# Altium integrated library B2B-SOM-TL3572.IntLib: 1 symbol
Pins are listed as number, name and electrical type; pins without a type are passive.

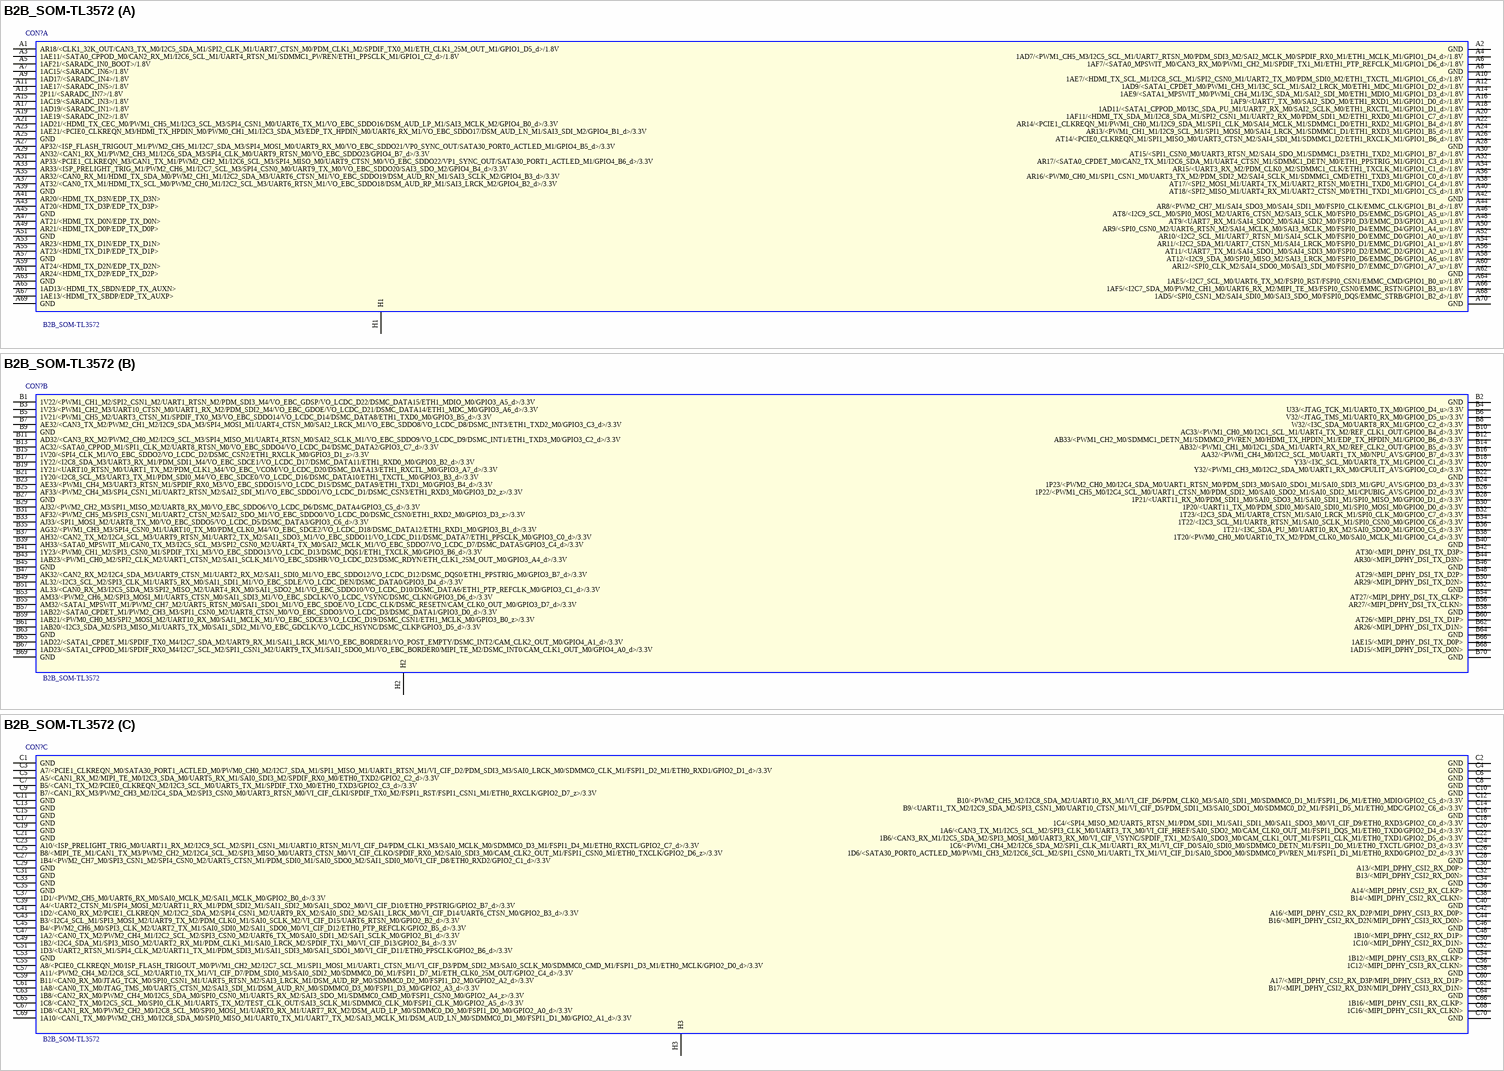
[diagram p0: symbol B2B_SOM-TL3572]

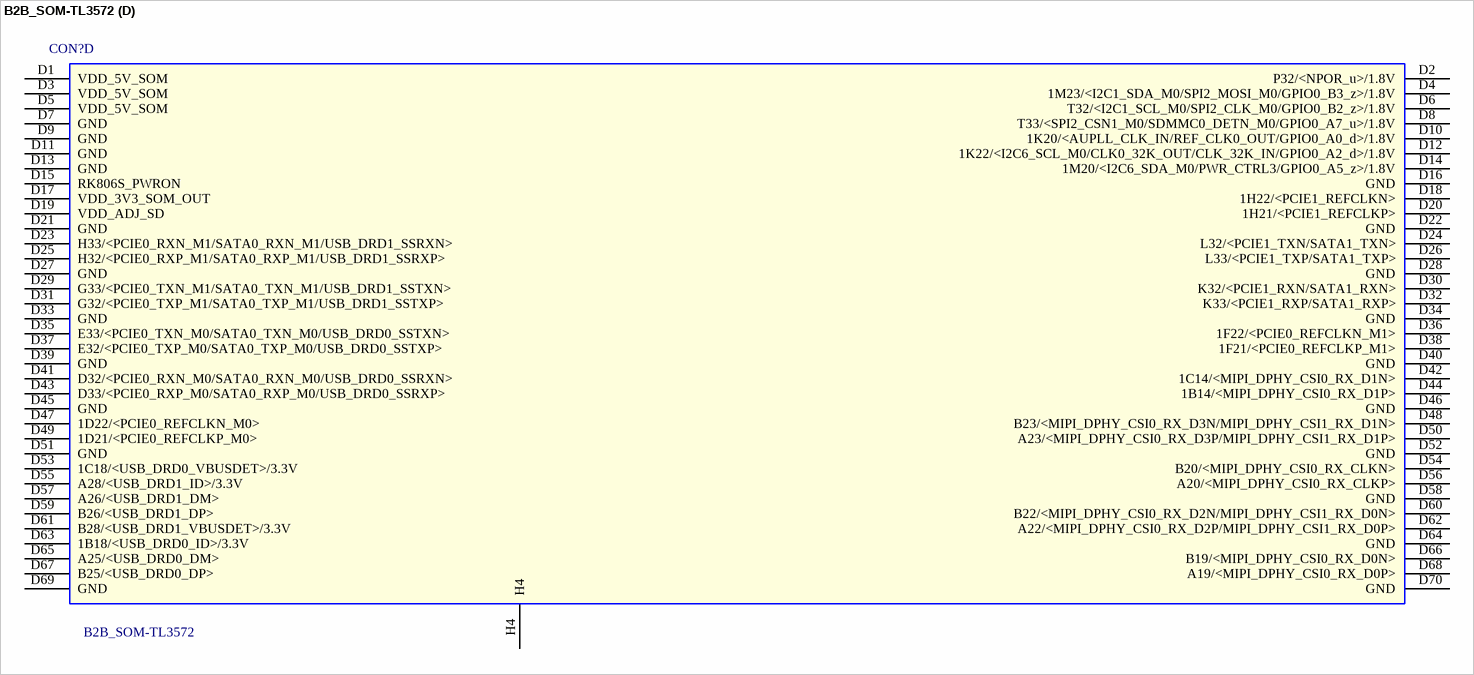
[diagram p1: symbol B2B_SOM-TL3572]

## B2B_SOM-TL3572
designator CON?
As-Welded: /; PCB Footprint: B2B_SOM-TL3572
footprint B2B_SOM-TL3572
part A pins: A1 AR18/<CLK1_32K_OUT/CAN3_TX_M0/I2C5_SDA_M1/SPI2_CLK_M1/UART7_CTSN_M0/PDM_CLK1_M2/SPDIF_TX0_M1/ETH_CLK1_25M_OUT_M1/GPIO1_D5_d>/1.8V (power), A2 GND (power), A3 1AE11/<SATA0_CPPOD_M0/CAN2_RX_M1/I2C6_SCL_M1/UART4_RTSN_M1/SDMMC1_PWREN/ETH1_PPSCLK_M1/GPIO1_C2_d>/1.8V (power), A4 1AD7/<PWM1_CH5_M3/I2C5_SCL_M1/UART7_RTSN_M0/PDM_SDI3_M2/SAI2_MCLK_M0/SPDIF_RX0_M1/ETH1_MCLK_M1/GPIO1_D4_d>/1.8V, A5 1AF21/<SARADC_IN0_BOOT>/1.8V (power), A6 1AF7/<SATA0_MPSWIT_M0/CAN3_RX_M0/PWM1_CH2_M1/SPDIF_TX1_M1/ETH1_PTP_REFCLK_M1/GPIO1_D6_d>/1.8V, A7 1AC15/<SARADC_IN6>/1.8V (power), A8 GND (power), A9 1AD17/<SARADC_IN4>/1.8V (power), A10 1AE7/<HDMI_TX_SCL_M1/I2C8_SCL_M1/SPI2_CSN0_M1/UART2_TX_M0/PDM_SDI0_M2/ETH1_TXCTL_M1/GPIO1_C6_d>/1.8V, A11 1AE17/<SARADC_IN5>/1.8V (power), A12 1AD9/<SATA1_CPDET_M0/PWM1_CH3_M1/I3C_SCL_M1/SAI2_LRCK_M0/ETH1_MDC_M1/GPIO1_D2_d>/1.8V, A13 2P11/<SARADC_IN7>/1.8V, A14 1AE9/<SATA1_MPSWIT_M0/PWM1_CH4_M1/I3C_SDA_M1/SAI2_SDI_M0/ETH1_MDIO_M1/GPIO1_D3_d>/1.8V (power), A15 1AC19/<SARADC_IN3>/1.8V, A16 1AF9/<UART7_TX_M0/SAI2_SDO_M0/ETH1_RXD1_M1/GPIO1_D0_d>/1.8V, A17 1AD19/<SARADC_IN1>/1.8V, A18 1AD11/<SATA1_CPPOD_M0/I3C_SDA_PU_M1/UART7_RX_M0/SAI2_SCLK_M0/ETH1_RXCTL_M1/GPIO1_D1_d>/1.8V, A19 1AE19/<SARADC_IN2>/1.8V, A20 1AF11/<HDMI_TX_SDA_M1/I2C8_SDA_M1/SPI2_CSN1_M1/UART2_RX_M0/PDM_SDI1_M2/ETH1_RXD0_M1/GPIO1_C7_d>/1.8V, A21 1AD21/<HDMI_TX_CEC_M0/PWM1_CH5_M1/I2C3_SCL_M3/SPI4_CSN1_M0/UART6_TX_M1/VO_EBC_SDDO16/DSM_AUD_LP_M1/SAI3_MCLK_M2/GPIO4_B0_d>/3.3V, A22 AR14/<PCIE1_CLKREQN_M1/PWM1_CH0_M1/I2C9_SDA_M1/SPI1_CLK_M0/SAI4_MCLK_M1/SDMMC1_D0/ETH1_RXD2_M1/GPIO1_B4_d>/1.8V, A23 1AE21/<PCIE0_CLKREQN_M3/HDMI_TX_HPDIN_M0/PWM0_CH1_M1/I2C3_SDA_M3/EDP_TX_HPDIN_M0/UART6_RX_M1/VO_EBC_SDDO17/DSM_AUD_LN_M1/SAI3_SDI_M2/GPIO4_B1_d>/3.3V, A24 AR13/<PWM1_CH1_M1/I2C9_SCL_M1/SPI1_MOSI_M0/SAI4_LRCK_M1/SDMMC1_D1/ETH1_RXD3_M1/GPIO1_B5_d>/1.8V, A25 GND (power), A26 AT14/<PCIE0_CLKREQN_M1/SPI1_MISO_M0/UART3_CTSN_M2/SAI4_SDI_M1/SDMMC1_D2/ETH1_RXCLK_M1/GPIO1_B6_d>/1.8V, A27 AP32/<ISP_FLASH_TRIGOUT_M1/PWM2_CH5_M1/I2C7_SDA_M3/SPI4_MOSI_M0/UART9_RX_M0/VO_EBC_SDDO21/VP0_SYNC_OUT/SATA30_PORT0_ACTLED_M1/GPIO4_B5_d>/3.3V, A28 GND (power), A29 AN32/<CAN1_RX_M1/PWM2_CH3_M1/I2C6_SDA_M3/SPI4_CLK_M0/UART9_RTSN_M0/VO_EBC_SDDO23/GPIO4_B7_d>/3.3V, A30 AT15/<SPI1_CSN0_M0/UART3_RTSN_M2/SAI4_SDO_M1/SDMMC1_D3/ETH1_TXD2_M1/GPIO1_B7_d>/1.8V, A31 AP33/<PCIE1_CLKREQN_M3/CAN1_TX_M1/PWM2_CH2_M1/I2C6_SCL_M3/SPI4_MISO_M0/UART9_CTSN_M0/VO_EBC_SDDO22/VP1_SYNC_OUT/SATA30_PORT1_ACTLED_M1/GPIO4_B6_d>/3.3V, A32 AR17/<SATA0_CPDET_M0/CAN2_TX_M1/I2C6_SDA_M1/UART4_CTSN_M1/SDMMC1_DETN_M0/ETH1_PPSTRIG_M1/GPIO1_C3_d>/1.8V, A33 AR33/<ISP_PRELIGHT_TRIG_M1/PWM2_CH6_M1/I2C7_SCL_M3/SPI4_CSN0_M0/UART9_TX_M0/VO_EBC_SDDO20/SAI3_SDO_M2/GPIO4_B4_d>/3.3V, A34 AR15/<UART3_RX_M2/PDM_CLK0_M2/SDMMC1_CLK/ETH1_TXCLK_M1/GPIO1_C1_d>/1.8V, A35 AR32/<CAN0_RX_M1/HDMI_TX_SDA_M0/PWM2_CH1_M1/I2C2_SDA_M3/UART6_CTSN_M1/VO_EBC_SDDO19/DSM_AUD_RN_M1/SAI3_SCLK_M2/GPIO4_B3_d>/3.3V, A36 AR16/<PWM0_CH0_M1/SPI1_CSN1_M0/UART3_TX_M2/PDM_SDI2_M2/SAI4_SCLK_M1/SDMMC1_CMD/ETH1_TXD3_M1/GPIO1_C0_d>/1.8V, A37 AT32/<CAN0_TX_M1/HDMI_TX_SCL_M0/PWM2_CH0_M1/I2C2_SCL_M3/UART6_RTSN_M1/VO_EBC_SDDO18/DSM_AUD_RP_M1/SAI3_LRCK_M2/GPIO4_B2_d>/3.3V, A38 AT17/<SPI2_MOSI_M1/UART4_TX_M1/UART2_RTSN_M0/ETH1_TXD0_M1/GPIO1_C4_d>/1.8V, A39 GND (power), A40 AT18/<SPI2_MISO_M1/UART4_RX_M1/UART2_CTSN_M0/ETH1_TXD1_M1/GPIO1_C5_d>/1.8V, A41 AR20/<HDMI_TX_D3N/EDP_TX_D3N>, A42 GND (power), A43 AT20/<HDMI_TX_D3P/EDP_TX_D3P>, A44 AR8/<PWM2_CH7_M1/SAI4_SDO3_M0/SAI4_SDI1_M0/FSPI0_CLK/EMMC_CLK/GPIO1_B1_d>/1.8V, A45 GND (power), A46 AT8/<I2C9_SCL_M0/SPI0_MOSI_M2/UART6_CTSN_M2/SAI3_SCLK_M0/FSPI0_D5/EMMC_D5/GPIO1_A5_u>/1.8V, A47 AT21/<HDMI_TX_D0N/EDP_TX_D0N>, A48 AT9/<UART7_RX_M1/SAI4_SDO2_M0/SAI4_SDI2_M0/FSPI0_D3/EMMC_D3/GPIO1_A3_u>/1.8V, A49 AR21/<HDMI_TX_D0P/EDP_TX_D0P>, A50 AR9/<SPI0_CSN0_M2/UART6_RTSN_M2/SAI4_MCLK_M0/SAI3_MCLK_M0/FSPI0_D4/EMMC_D4/GPIO1_A4_u>/1.8V, A51 GND (power), A52 AR10/<I2C2_SCL_M1/UART7_RTSN_M1/SAI4_SCLK_M0/FSPI0_D0/EMMC_D0/GPIO1_A0_u>/1.8V, A53 AR23/<HDMI_TX_D1N/EDP_TX_D1N>, A54 AR11/<I2C2_SDA_M1/UART7_CTSN_M1/SAI4_LRCK_M0/FSPI0_D1/EMMC_D1/GPIO1_A1_u>/1.8V, A55 AT23/<HDMI_TX_D1P/EDP_TX_D1P>, A56 AT11/<UART7_TX_M1/SAI4_SDO1_M0/SAI4_SDI3_M0/FSPI0_D2/EMMC_D2/GPIO1_A2_u>/1.8V, A57 GND (power), A58 AT12/<I2C9_SDA_M0/SPI0_MISO_M2/SAI3_LRCK_M0/FSPI0_D6/EMMC_D6/GPIO1_A6_u>/1.8V, A59 AT24/<HDMI_TX_D2N/EDP_TX_D2N>, A60 AR12/<SPI0_CLK_M2/SAI4_SDO0_M0/SAI3_SDI_M0/FSPI0_D7/EMMC_D7/GPIO1_A7_u>/1.8V, A61 AR24/<HDMI_TX_D2P/EDP_TX_D2P>, A62 GND (power), A63 GND (power), A64 1AE5/<I2C7_SCL_M0/UART6_TX_M2/FSPI0_RST/FSPI0_CSN1/EMMC_CMD/GPIO1_B0_u>/1.8V, A65 1AD13/<HDMI_TX_SBDN/EDP_TX_AUXN>, A66 1AF5/<I2C7_SDA_M0/PWM2_CH1_M0/UART6_RX_M2/MIPI_TE_M3/FSPI0_CSN0/EMMC_RSTN/GPIO1_B3_u>/1.8V, A67 1AE13/<HDMI_TX_SBDP/EDP_TX_AUXP>, A68 1AD5/<SPI0_CSN1_M2/SAI4_SDI0_M0/SAI3_SDO_M0/FSPI0_DQS/EMMC_STRB/GPIO1_B2_d>/1.8V, A69 GND (power), A70 GND (power), H1
part B pins: B1 1V22/<PWM1_CH1_M2/SPI2_CSN1_M2/UART1_RTSN_M2/PDM_SDI3_M4/VO_EBC_GDSP/VO_LCDC_D22/DSMC_DATA15/ETH1_MDIO_M0/GPIO3_A5_d>/3.3V, B2 GND (power), B3 1V23/<PWM1_CH2_M3/UART10_CTSN_M0/UART1_RX_M2/PDM_SDI2_M4/VO_EBC_GDOE/VO_LCDC_D21/DSMC_DATA14/ETH1_MDC_M0/GPIO3_A6_d>/3.3V, B4 U33/<JTAG_TCK_M1/UART0_TX_M0/GPIO0_D4_u>/3.3V (power), B5 1V21/<PWM1_CH5_M2/UART3_CTSN_M1/SPDIF_TX0_M3/VO_EBC_SDDO14/VO_LCDC_D14/DSMC_DATA8/ETH1_TXD0_M0/GPIO3_B5_d>/3.3V, B6 V32/<JTAG_TMS_M1/UART0_RX_M0/GPIO0_D5_u>/3.3V (power), B7 AE32/<CAN3_TX_M2/PWM2_CH1_M2/I2C9_SDA_M3/SPI4_MOSI_M1/UART4_CTSN_M0/SAI2_LRCK_M1/VO_EBC_SDDO8/VO_LCDC_D8/DSMC_INT3/ETH1_TXD2_M0/GPIO3_C3_d>/3.3V, B8 W32/<I3C_SDA_M0/UART8_RX_M1/GPIO0_C2_d>/3.3V, B9 GND (power), B10 AC33/<PWM1_CH0_M0/I2C1_SCL_M1/UART4_TX_M2/REF_CLK1_OUT/GPIO0_B4_d>/3.3V, B11 AD32/<CAN3_RX_M2/PWM2_CH0_M2/I2C9_SCL_M3/SPI4_MISO_M1/UART4_RTSN_M0/SAI2_SCLK_M1/VO_EBC_SDDO9/VO_LCDC_D9/DSMC_INT1/ETH1_TXD3_M0/GPIO3_C2_d>/3.3V (hiz), B12 AB33/<PWM1_CH2_M0/SDMMC1_DETN_M1/SDMMC0_PWREN_M0/HDMI_TX_HPDIN_M1/EDP_TX_HPDIN_M1/GPIO0_B6_d>/3.3V, B13 AC32/<SATA0_CPPOD_M1/SPI1_CLK_M2/UART8_RTSN_M0/VO_EBC_SDDO4/VO_LCDC_D4/DSMC_DATA2/GPIO3_C7_d>/3.3V, B14 AB32/<PWM1_CH1_M0/I2C1_SDA_M1/UART4_RX_M2/REF_CLK2_OUT/GPIO0_B5_d>/3.3V (power), B15 1V20/<SPI4_CLK_M1/VO_EBC_SDDO2/VO_LCDC_D2/DSMC_CSN2/ETH1_RXCLK_M0/GPIO3_D1_z>/3.3V, B16 AA32/<PWM1_CH4_M0/I2C2_SCL_M0/UART1_TX_M0/NPU_AVS/GPIO0_B7_d>/3.3V (power), B17 1Y22/<I2C8_SDA_M3/UART3_RX_M1/PDM_SDI1_M4/VO_EBC_SDCE1/VO_LCDC_D17/DSMC_DATA11/ETH1_RXD0_M0/GPIO3_B2_d>/3.3V (power), B18 Y33/<I3C_SCL_M0/UART8_TX_M1/GPIO0_C1_d>/3.3V, B19 1Y21/<UART10_RTSN_M0/UART1_TX_M2/PDM_CLK1_M4/VO_EBC_VCOM/VO_LCDC_D20/DSMC_DATA13/ETH1_RXCTL_M0/GPIO3_A7_d>/3.3V (power), B20 Y32/<PWM1_CH3_M0/I2C2_SDA_M0/UART1_RX_M0/CPULIT_AVS/GPIO0_C0_d>/3.3V (power), B21 1Y20/<I2C8_SCL_M3/UART3_TX_M1/PDM_SDI0_M4/VO_EBC_SDCE0/VO_LCDC_D16/DSMC_DATA10/ETH1_TXCTL_M0/GPIO3_B3_d>/3.3V, B22 GND (power), B23 AE33/<PWM1_CH4_M3/UART3_RTSN_M1/SPDIF_RX0_M3/VO_EBC_SDDO15/VO_LCDC_D15/DSMC_DATA9/ETH1_TXD1_M0/GPIO3_B4_d>/3.3V, B24 1P23/<PWM2_CH0_M0/I2C4_SDA_M0/UART1_RTSN_M0/PDM_SDI3_M0/SAI0_SDO1_M1/SAI0_SDI3_M1/GPU_AVS/GPIO0_D3_d>/3.3V (power), B25 AF33/<PWM2_CH4_M3/SPI4_CSN1_M1/UART2_RTSN_M2/SAI2_SDI_M1/VO_EBC_SDDO1/VO_LCDC_D1/DSMC_CSN3/ETH1_RXD3_M0/GPIO3_D2_z>/3.3V, B26 1P22/<PWM1_CH5_M0/I2C4_SCL_M0/UART1_CTSN_M0/PDM_SDI2_M0/SAI0_SDO2_M1/SAI0_SDI2_M1/CPUBIG_AVS/GPIO0_D2_d>/3.3V, B27 GND (power), B28 1P21/<UART11_RX_M0/PDM_SDI1_M0/SAI0_SDO3_M1/SAI0_SDI1_M1/SPI0_MISO_M0/GPIO0_D1_d>/3.3V (power), B29 AJ32/<PWM2_CH2_M3/SPI1_MISO_M2/UART8_RX_M0/VO_EBC_SDDO6/VO_LCDC_D6/DSMC_DATA4/GPIO3_C5_d>/3.3V, B30 1P20/<UART11_TX_M0/PDM_SDI0_M0/SAI0_SDI0_M1/SPI0_MOSI_M0/GPIO0_D0_d>/3.3V (power), B31 AF32/<PWM2_CH5_M3/SPI3_CSN1_M1/UART2_CTSN_M2/SAI2_SDO_M1/VO_EBC_SDDO0/VO_LCDC_D0/DSMC_CSN0/ETH1_RXD2_M0/GPIO3_D3_z>/3.3V, B32 1T23/<I2C3_SDA_M1/UART8_CTSN_M1/SAI0_LRCK_M1/SPI0_CLK_M0/GPIO0_C7_d>/3.3V (power), B33 AJ33/<SPI1_MOSI_M2/UART8_TX_M0/VO_EBC_SDDO5/VO_LCDC_D5/DSMC_DATA3/GPIO3_C6_d>/3.3V, B34 1T22/<I2C3_SCL_M1/UART8_RTSN_M1/SAI0_SCLK_M1/SPI0_CSN0_M0/GPIO0_C6_d>/3.3V (power), B35 AG32/<PWM1_CH3_M3/SPI4_CSN0_M1/UART10_TX_M0/PDM_CLK0_M4/VO_EBC_SDCE2/VO_LCDC_D18/DSMC_DATA12/ETH1_RXD1_M0/GPIO3_B1_d>/3.3V, B36 1T21/<I3C_SDA_PU_M0/UART10_RX_M2/SAI0_SDO0_M1/GPIO0_C5_d>/3.3V, B37 AH32/<CAN2_TX_M2/I2C4_SCL_M3/UART9_RTSN_M1/UART2_TX_M2/SAI1_SDO3_M1/VO_EBC_SDDO11/VO_LCDC_D11/DSMC_DATA7/ETH1_PPSCLK_M0/GPIO3_C0_d>/3.3V, B38 1T20/<PWM0_CH0_M0/UART10_TX_M2/PDM_CLK0_M0/SAI0_MCLK_M1/GPIO0_C4_d>/3.3V, B39 AH33/<SATA0_MPSWIT_M1/CAN0_TX_M3/I2C5_SCL_M3/SPI2_CSN0_M2/UART4_TX_M0/SAI2_MCLK_M1/VO_EBC_SDDO7/VO_LCDC_D7/DSMC_DATA5/GPIO3_C4_d>/3.3V, B40 GND (power), B41 1Y23/<PWM0_CH1_M2/SPI3_CSN0_M1/SPDIF_TX1_M3/VO_EBC_SDDO13/VO_LCDC_D13/DSMC_DQS1/ETH1_TXCLK_M0/GPIO3_B6_d>/3.3V, B42 AT30/<MIPI_DPHY_DSI_TX_D3P>, B43 1AB23/<PWM1_CH0_M2/SPI2_CLK_M2/UART1_CTSN_M2/SAI1_SCLK_M1/VO_EBC_SDSHR/VO_LCDC_D23/DSMC_RDYN/ETH_CLK1_25M_OUT_M0/GPIO3_A4_d>/3.3V, B44 AR30/<MIPI_DPHY_DSI_TX_D3N>, B45 GND (power), B46 GND (power), B47 AK32/<CAN2_RX_M2/I2C4_SDA_M3/UART9_CTSN_M1/UART2_RX_M2/SAI1_SDI0_M1/VO_EBC_SDDO12/VO_LCDC_D12/DSMC_DQS0/ETH1_PPSTRIG_M0/GPIO3_B7_d>/3.3V, B48 AT29/<MIPI_DPHY_DSI_TX_D2P>, B49 AL32/<I2C3_SCL_M2/SPI3_CLK_M1/UART5_RX_M0/SAI1_SDI1_M1/VO_EBC_SDLE/VO_LCDC_DEN/DSMC_DATA0/GPIO3_D4_d>/3.3V (power), B50 AR29/<MIPI_DPHY_DSI_TX_D2N>, B51 AL33/<CAN0_RX_M3/I2C5_SDA_M3/SPI2_MISO_M2/UART4_RX_M0/SAI1_SDO2_M1/VO_EBC_SDDO10/VO_LCDC_D10/DSMC_DATA6/ETH1_PTP_REFCLK_M0/GPIO3_C1_d>/3.3V, B52 GND (power), B53 AM33/<PWM2_CH6_M2/SPI3_MOSI_M1/UART5_CTSN_M0/SAI1_SDI3_M1/VO_EBC_SDCLK/VO_LCDC_VSYNC/DSMC_CLKN/GPIO3_D6_d>/3.3V, B54 AT27/<MIPI_DPHY_DSI_TX_CLKP>, B55 AM32/<SATA1_MPSWIT_M1/PWM2_CH7_M2/UART5_RTSN_M0/SAI1_SDO1_M1/VO_EBC_SDOE/VO_LCDC_CLK/DSMC_RESETN/CAM_CLK0_OUT_M0/GPIO3_D7_d>/3.3V, B56 AR27/<MIPI_DPHY_DSI_TX_CLKN>, B57 1AB22/<SATA0_CPDET_M1/PWM2_CH3_M3/SPI1_CSN0_M2/UART8_CTSN_M0/VO_EBC_SDDO3/VO_LCDC_D3/DSMC_DATA1/GPIO3_D0_d>/3.3V, B58 GND (power), B59 1AB21/<PWM0_CH0_M3/SPI2_MOSI_M2/UART10_RX_M0/SAI1_MCLK_M1/VO_EBC_SDCE3/VO_LCDC_D19/DSMC_CSN1/ETH1_MCLK_M0/GPIO3_B0_z>/3.3V, B60 AT26/<MIPI_DPHY_DSI_TX_D1P>, B61 1AB20/<I2C3_SDA_M2/SPI3_MISO_M1/UART5_TX_M0/SAI1_SDI2_M1/VO_EBC_GDCLK/VO_LCDC_HSYNC/DSMC_CLKP/GPIO3_D5_d>/3.3V, B62 AR26/<MIPI_DPHY_DSI_TX_D1N>, B63 GND (power), B64 GND (power), B65 1AD22/<SATA1_CPDET_M1/SPDIF_TX0_M4/I2C7_SDA_M2/UART9_RX_M1/SAI1_LRCK_M1/VO_EBC_BORDER1/VO_POST_EMPTY/DSMC_INT2/CAM_CLK2_OUT_M0/GPIO4_A1_d>/3.3V, B66 1AE15/<MIPI_DPHY_DSI_TX_D0P> (power), B67 1AD23/<SATA1_CPPOD_M1/SPDIF_RX0_M4/I2C7_SCL_M2/SPI1_CSN1_M2/UART9_TX_M1/SAI1_SDO0_M1/VO_EBC_BORDER0/MIPI_TE_M2/DSMC_INT0/CAM_CLK1_OUT_M0/GPIO4_A0_d>/3.3V, B68 1AD15/<MIPI_DPHY_DSI_TX_D0N> (power), B69 GND (power), B70 GND (power), H2
part C pins: C1 GND (power), C2 GND (power), C3 A7/<PCIE1_CLKREQN_M0/SATA30_PORT1_ACTLED_M0/PWM0_CH0_M2/I2C7_SDA_M1/SPI1_MISO_M1/UART1_RTSN_M1/VI_CIF_D2/PDM_SDI3_M3/SAI0_LRCK_M0/SDMMC0_CLK_M1/FSPI1_D2_M1/ETH0_RXD1/GPIO2_D1_d>/3.3V, C4 GND (power), C5 A5/<CAN1_RX_M2/MIPI_TE_M0/I2C3_SDA_M0/UART5_RX_M1/SAI0_SDI3_M2/SPDIF_RX0_M0/ETH0_TXD2/GPIO2_C2_d>/3.3V, C6 GND (power), C7 B5/<CAN1_TX_M2/PCIE0_CLKREQN_M2/I2C3_SCL_M0/UART5_TX_M1/SPDIF_TX0_M0/ETH0_TXD3/GPIO2_C3_d>/3.3V, C8 GND (power), C9 B7/<CAN1_RX_M3/PWM2_CH3_M2/I2C4_SDA_M2/SPI3_CSN0_M0/UART3_RTSN_M0/VI_CIF_CLKI/SPDIF_TX0_M2/FSPI1_RST/FSPI1_CSN1_M1/ETH0_RXCLK/GPIO2_D7_z>/3.3V, C10 GND (power), C11 GND (power), C12 B10/<PWM2_CH5_M2/I2C8_SDA_M2/UART10_RX_M1/VI_CIF_D6/PDM_CLK0_M3/SAI0_SDI1_M0/SDMMC0_D1_M1/FSPI1_D6_M1/ETH0_MDIO/GPIO2_C5_d>/3.3V, C13 GND (power), C14 B9/<UART11_TX_M2/I2C9_SDA_M2/SPI3_CSN1_M0/UART10_CTSN_M1/VI_CIF_D5/PDM_SDI1_M3/SAI0_SDO1_M0/SDMMC0_D2_M1/FSPI1_D5_M1/ETH0_MDC/GPIO2_C6_d>/3.3V, C15 GND (power), C16 GND (power), C17 GND (power), C18 1C4/<SPI4_MISO_M2/UART5_RTSN_M1/PDM_SDI1_M1/SAI1_SDI1_M0/SAI1_SDO3_M0/VI_CIF_D9/ETH0_RXD3/GPIO2_C0_d>/3.3V, C19 GND (power), C20 1A6/<CAN3_TX_M1/I2C5_SCL_M2/SPI3_CLK_M0/UART3_TX_M0/VI_CIF_HREF/SAI0_SDO2_M0/CAM_CLK0_OUT_M1/FSPI1_DQS_M1/ETH0_TXD0/GPIO2_D4_d>/3.3V, C21 GND (power), C22 1B6/<CAN3_RX_M1/I2C5_SDA_M2/SPI3_MOSI_M0/UART3_RX_M0/VI_CIF_VSYNC/SPDIF_TX1_M2/SAI0_SDO3_M0/CAM_CLK1_OUT_M1/FSPI1_CLK_M1/ETH0_TXD1/GPIO2_D5_d>/3.3V, C23 A10/<ISP_PRELIGHT_TRIG_M0/UART11_RX_M2/I2C9_SCL_M2/SPI1_CSN1_M1/UART10_RTSN_M1/VI_CIF_D4/PDM_CLK1_M3/SAI0_MCLK_M0/SDMMC0_D3_M1/FSPI1_D4_M1/ETH0_RXCTL/GPIO2_C7_d>/3.3V, C24 1C6/<PWM1_CH4_M2/I2C6_SDA_M2/SPI1_CLK_M1/UART1_RX_M1/VI_CIF_D0/SAI0_SDI0_M0/SDMMC0_DETN_M1/FSPI1_D0_M1/ETH0_TXCTL/GPIO2_D3_d>/3.3V, C25 B8/<MIPI_TE_M1/CAN1_TX_M3/PWM2_CH2_M2/I2C4_SCL_M2/SPI3_MISO_M0/UART3_CTSN_M0/VI_CIF_CLKO/SPDIF_RX0_M2/SAI0_SDI3_M0/CAM_CLK2_OUT_M1/FSPI1_CSN0_M1/ETH0_TXCLK/GPIO2_D6_z>/3.3V, C26 1D6/<SATA30_PORT0_ACTLED_M0/PWM1_CH3_M2/I2C6_SCL_M2/SPI1_CSN0_M1/UART1_TX_M1/VI_CIF_D1/SAI0_SDO0_M0/SDMMC0_PWREN_M1/FSPI1_D1_M1/ETH0_RXD0/GPIO2_D2_d>/3.3V, C27 1B4/<PWM2_CH7_M0/SPI3_CSN1_M2/SPI4_CSN0_M2/UART5_CTSN_M1/PDM_SDI0_M1/SAI0_SDO0_M2/SAI1_SDI0_M0/VI_CIF_D8/ETH0_RXD2/GPIO2_C1_d>/3.3V (power), C28 GND (power), C29 GND (power), C30 A13/<MIPI_DPHY_CSI2_RX_D0P>, C31 GND (power), C32 B13/<MIPI_DPHY_CSI2_RX_D0N>, C33 GND (power), C34 GND (power), C35 GND (power), C36 A14/<MIPI_DPHY_CSI2_RX_CLKP>, C37 1D1/<PWM2_CH5_M0/UART6_RX_M0/SAI0_MCLK_M2/SAI1_MCLK_M0/GPIO2_B0_d>/3.3V, C38 B14/<MIPI_DPHY_CSI2_RX_CLKN>, C39 A4/<UART2_CTSN_M1/SPI4_MOSI_M2/UART11_RX_M1/PDM_SDI2_M1/SAI1_SDI2_M0/SAI1_SDO2_M0/VI_CIF_D10/ETH0_PPSTRIG/GPIO2_B7_d>/3.3V (power), C40 GND (power), C41 1D2/<CAN0_RX_M2/PCIE1_CLKREQN_M2/I2C2_SDA_M2/SPI4_CSN1_M2/UART9_RX_M2/SAI0_SDI2_M2/SAI1_LRCK_M0/VI_CIF_D14/UART6_CTSN_M0/GPIO2_B3_d>/3.3V, C42 A16/<MIPI_DPHY_CSI2_RX_D2P/MIPI_DPHY_CSI3_RX_D0P>, C43 B3/<I2C4_SCL_M1/SPI3_MOSI_M2/UART9_TX_M2/PDM_CLK0_M1/SAI0_SCLK_M2/VI_CIF_D15/UART6_RTSN_M0/GPIO2_B2_d>/3.3V, C44 B16/<MIPI_DPHY_CSI2_RX_D2N/MIPI_DPHY_CSI3_RX_D0N>, C45 B4/<PWM2_CH6_M0/SPI3_CLK_M2/UART2_TX_M1/SAI0_SDI0_M2/SAI1_SDO0_M0/VI_CIF_D12/ETH0_PTP_REFCLK/GPIO2_B5_d>/3.3V (power), C46 GND (power), C47 1A2/<CAN0_TX_M2/PWM2_CH4_M1/I2C2_SCL_M2/SPI3_CSN0_M2/UART6_TX_M0/SAI0_SDI1_M2/SAI1_SCLK_M0/GPIO2_B1_d>/3.3V, C48 1B10/<MIPI_DPHY_CSI2_RX_D1P>, C49 1B2/<I2C4_SDA_M1/SPI3_MISO_M2/UART2_RX_M1/PDM_CLK1_M1/SAI0_LRCK_M2/SPDIF_TX1_M0/VI_CIF_D13/GPIO2_B4_d>/3.3V, C50 1C10/<MIPI_DPHY_CSI2_RX_D1N>, C51 1D3/<UART2_RTSN_M1/SPI4_CLK_M2/UART11_TX_M1/PDM_SDI3_M1/SAI1_SDI3_M0/SAI1_SDO1_M0/VI_CIF_D11/ETH0_PPSCLK/GPIO2_B6_d>/3.3V (power), C52 GND (power), C53 GND (power), C54 1B12/<MIPI_DPHY_CSI3_RX_CLKP>, C55 A8/<PCIE0_CLKREQN_M0/ISP_FLASH_TRIGOUT_M0/PWM1_CH2_M2/I2C7_SCL_M1/SPI1_MOSI_M1/UART1_CTSN_M1/VI_CIF_D3/PDM_SDI2_M3/SAI0_SCLK_M0/SDMMC0_CMD_M1/FSPI1_D3_M1/ETH0_MCLK/GPIO2_D0_d>/3.3V, C56 1C12/<MIPI_DPHY_CSI3_RX_CLKN>, C57 A11/<PWM2_CH4_M2/I2C8_SCL_M2/UART10_TX_M1/VI_CIF_D7/PDM_SDI0_M3/SAI0_SDI2_M0/SDMMC0_D0_M1/FSPI1_D7_M1/ETH_CLK0_25M_OUT/GPIO2_C4_d>/3.3V (power), C58 GND (power), C59 B11/<CAN0_RX_M0/JTAG_TCK_M0/SPI0_CSN1_M1/UART5_RTSN_M2/SAI3_LRCK_M1/DSM_AUD_RP_M0/SDMMC0_D2_M0/FSPI1_D2_M0/GPIO2_A2_d>/3.3V, C60 A17/<MIPI_DPHY_CSI2_RX_D3P/MIPI_DPHY_CSI3_RX_D1P>, C61 1A8/<CAN0_TX_M0/JTAG_TMS_M0/UART5_CTSN_M2/SAI3_SDI_M1/DSM_AUD_RN_M0/SDMMC0_D3_M0/FSPI1_D3_M0/GPIO2_A3_d>/3.3V, C62 B17/<MIPI_DPHY_CSI2_RX_D3N/MIPI_DPHY_CSI3_RX_D1N>, C63 1B8/<CAN2_RX_M0/PWM2_CH4_M0/I2C5_SDA_M0/SPI0_CSN0_M1/UART5_RX_M2/SAI3_SDO_M1/SDMMC0_CMD_M0/FSPI1_CSN0_M0/GPIO2_A4_z>/3.3V, C64 GND (power), C65 1C8/<CAN2_TX_M0/I2C5_SCL_M0/SPI0_CLK_M1/UART5_TX_M2/TEST_CLK_OUT/SAI3_SCLK_M1/SDMMC0_CLK_M0/FSPI1_CLK_M0/GPIO2_A5_d>/3.3V, C66 1B16/<MIPI_DPHY_CSI1_RX_CLKP>, C67 1D8/<CAN1_RX_M0/PWM2_CH2_M0/I2C8_SCL_M0/SPI0_MOSI_M1/UART0_RX_M1/UART7_RX_M2/DSM_AUD_LP_M0/SDMMC0_D0_M0/FSPI1_D0_M0/GPIO2_A0_d>/3.3V, C68 1C16/<MIPI_DPHY_CSI1_RX_CLKN>, C69 1A10/<CAN1_TX_M0/PWM2_CH3_M0/I2C8_SDA_M0/SPI0_MISO_M1/UART0_TX_M1/UART7_TX_M2/SAI3_MCLK_M1/DSM_AUD_LN_M0/SDMMC0_D1_M0/FSPI1_D1_M0/GPIO2_A1_d>/3.3V, C70 GND (power), H3
part D pins: D1 VDD_5V_SOM (power), D2 P32/<NPOR_u>/1.8V, D3 VDD_5V_SOM (power), D4 1M23/<I2C1_SDA_M0/SPI2_MOSI_M0/GPIO0_B3_z>/1.8V, D5 VDD_5V_SOM (power), D6 T32/<I2C1_SCL_M0/SPI2_CLK_M0/GPIO0_B2_z>/1.8V, D7 GND (power), D8 T33/<SPI2_CSN1_M0/SDMMC0_DETN_M0/GPIO0_A7_u>/1.8V, D9 GND (power), D10 1K20/<AUPLL_CLK_IN/REF_CLK0_OUT/GPIO0_A0_d>/1.8V, D11 GND (power), D12 1K22/<I2C6_SCL_M0/CLK0_32K_OUT/CLK_32K_IN/GPIO0_A2_d>/1.8V, D13 GND (power), D14 1M20/<I2C6_SDA_M0/PWR_CTRL3/GPIO0_A5_z>/1.8V, D15 RK806S_PWRON, D16 GND (power), D17 VDD_3V3_SOM_OUT, D18 1H22/<PCIE1_REFCLKN>, D19 VDD_ADJ_SD, D20 1H21/<PCIE1_REFCLKP>, D21 GND (power), D22 GND (power), D23 H33/<PCIE0_RXN_M1/SATA0_RXN_M1/USB_DRD1_SSRXN>, D24 L32/<PCIE1_TXN/SATA1_TXN>, D25 H32/<PCIE0_RXP_M1/SATA0_RXP_M1/USB_DRD1_SSRXP>, D26 L33/<PCIE1_TXP/SATA1_TXP> (power), D27 GND (power), D28 GND (power), D29 G33/<PCIE0_TXN_M1/SATA0_TXN_M1/USB_DRD1_SSTXN>, D30 K32/<PCIE1_RXN/SATA1_RXN>, D31 G32/<PCIE0_TXP_M1/SATA0_TXP_M1/USB_DRD1_SSTXP>, D32 K33/<PCIE1_RXP/SATA1_RXP>, D33 GND (power), D34 GND (power), D35 E33/<PCIE0_TXN_M0/SATA0_TXN_M0/USB_DRD0_SSTXN>, D36 1F22/<PCIE0_REFCLKN_M1>, D37 E32/<PCIE0_TXP_M0/SATA0_TXP_M0/USB_DRD0_SSTXP>, D38 1F21/<PCIE0_REFCLKP_M1>, D39 GND (power), D40 GND (power), D41 D32/<PCIE0_RXN_M0/SATA0_RXN_M0/USB_DRD0_SSRXN>, D42 1C14/<MIPI_DPHY_CSI0_RX_D1N>, D43 D33/<PCIE0_RXP_M0/SATA0_RXP_M0/USB_DRD0_SSRXP> (power), D44 1B14/<MIPI_DPHY_CSI0_RX_D1P>, D45 GND (power), D46 GND (power), D47 1D22/<PCIE0_REFCLKN_M0>, D48 B23/<MIPI_DPHY_CSI0_RX_D3N/MIPI_DPHY_CSI1_RX_D1N> (power), D49 1D21/<PCIE0_REFCLKP_M0>, D50 A23/<MIPI_DPHY_CSI0_RX_D3P/MIPI_DPHY_CSI1_RX_D1P> (power), D51 GND (power), D52 GND (power), D53 1C18/<USB_DRD0_VBUSDET>/3.3V, D54 B20/<MIPI_DPHY_CSI0_RX_CLKN>, D55 A28/<USB_DRD1_ID>/3.3V, D56 A20/<MIPI_DPHY_CSI0_RX_CLKP>, D57 A26/<USB_DRD1_DM>, D58 GND (power), D59 B26/<USB_DRD1_DP>, D60 B22/<MIPI_DPHY_CSI0_RX_D2N/MIPI_DPHY_CSI1_RX_D0N>, D61 B28/<USB_DRD1_VBUSDET>/3.3V, D62 A22/<MIPI_DPHY_CSI0_RX_D2P/MIPI_DPHY_CSI1_RX_D0P>, D63 1B18/<USB_DRD0_ID>/3.3V, D64 GND (power), D65 A25/<USB_DRD0_DM>, D66 B19/<MIPI_DPHY_CSI0_RX_D0N>, D67 B25/<USB_DRD0_DP>, D68 A19/<MIPI_DPHY_CSI0_RX_D0P>, D69 GND (power), D70 GND (power), H4